# EAGLE library part ATSAM4LCX_100 (library imix)
100-pin TQFP Atmel SAM4LC microcontroller.
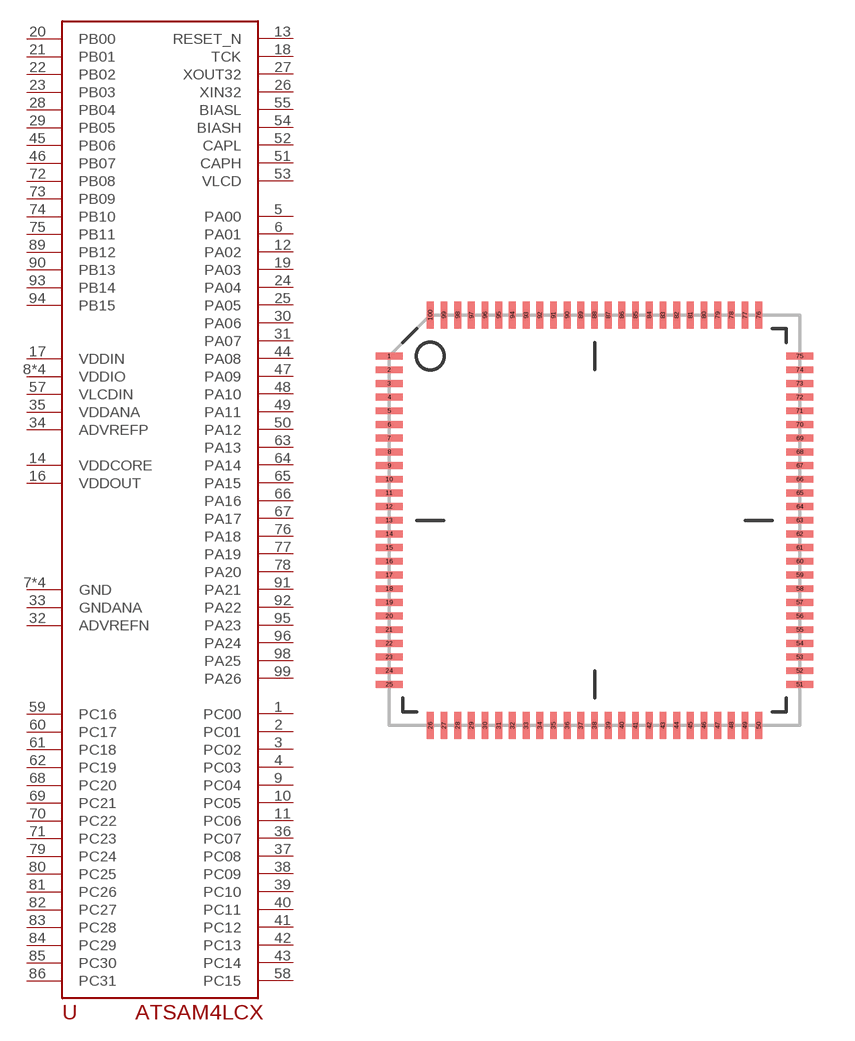
[diagram p9: symbol with the pads of TQFP100; footprint TQFP100]

Designator prefix -

## ATSAM4LCX_100  [TQFP100]
1  PC00
2  PC01
3  PC02
4  PC03
5  PA00
6  PA01
7  GND  pwr
8  VDDIO
9  PC04
10  PC05
11  PC06
12  PA02
13  RESET_N
14  VDDCORE
15  GND  pwr
16  VDDOUT
17  VDDIN
18  TCK
19  PA03
20  PB00
21  PB01
22  PB02
23  PB03
24  PA04
25  PA05
26  XIN32
27  XOUT32
28  PB04
29  PB05
30  PA06
31  PA07
32  ADVREFN
33  GNDANA
34  ADVREFP
35  VDDANA
36  PC07
37  PC08
38  PC09
39  PC10
40  PC11
41  PC12
42  PC13
43  PC14
44  PA08
45  PB06
46  PB07
47  PA09
48  PA10
49  PA11
50  PA12
51  CAPH
52  CAPL
53  VLCD
54  BIASH  pwr
55  BIASL  pwr
56  GND  pwr
57  VLCDIN
58  PC15
59  PC16
60  PC17
61  PC18
62  PC19
63  PA13
64  PA14
65  PA15
66  PA16
67  PA17
68  PC20
69  PC21
70  PC22
71  PC23
72  PB08
73  PB09
74  PB10
75  PB11
76  PA18
77  PA19
78  PA20
79  PC24
80  PC25
81  PC26
82  PC27
83  PC28
84  PC29
85  PC30
86  PC31
87  VDDIO
88  VDDIO
89  PB12
90  PB13
91  PA21
92  PA22
93  PB14
94  PB15
95  PA23
96  PA24
97  VDDIO
98  PA25
99  PA26
100  GND  pwr

## Footprint TQFP100 (pad centres in mm)
100-pin TQFP package for ATSAM4LXX
smd 1 x 0.25: 1 -7.5,6; 2 -7.5,5.5; 3 -7.5,5; 4 -7.5,4.5; 5 -7.5,4; 6 -7.5,3.5; 7 -7.5,3; 8 -7.5,2.5; 9 -7.5,2; 10 -7.5,1.5; 11 -7.5,1; 12 -7.5,0.5; 13 -7.5,0; 14 -7.5,-0.5; 15 -7.5,-1; 16 -7.5,-1.5; 17 -7.5,-2; 18 -7.5,-2.5; 19 -7.5,-3; 20 -7.5,-3.5; 21 -7.5,-4; 22 -7.5,-4.5; 23 -7.5,-5; 24 -7.5,-5.5; 25 -7.5,-6; 51 7.5,-6; 52 7.5,-5.5; 53 7.5,-5; 54 7.5,-4.5; 55 7.5,-4; 56 7.5,-3.5; 57 7.5,-3; 58 7.5,-2.5; 59 7.5,-2; 60 7.5,-1.5; 61 7.5,-1; 62 7.5,-0.5; 63 7.5,0; 64 7.5,0.5; 65 7.5,1; 66 7.5,1.5; 67 7.5,2; 68 7.5,2.5; 69 7.5,3; 70 7.5,3.5; 71 7.5,4; 72 7.5,4.5; 73 7.5,5; 74 7.5,5.5; 75 7.5,6
smd 0.25 x 1: 26 -6,-7.5; 27 -5.5,-7.5; 28 -5,-7.5; 29 -4.5,-7.5; 30 -4,-7.5; 31 -3.5,-7.5; 32 -3,-7.5; 33 -2.5,-7.5; 34 -2,-7.5; 35 -1.5,-7.5; 36 -1,-7.5; 37 -0.5,-7.5; 38 0,-7.5; 39 0.5,-7.5; 40 1,-7.5; 41 1.5,-7.5; 42 2,-7.5; 43 2.5,-7.5; 44 3,-7.5; 45 3.5,-7.5; 46 4,-7.5; 47 4.5,-7.5; 48 5,-7.5; 49 5.5,-7.5; 50 6,-7.5; 76 6,7.5; 77 5.5,7.5; 78 5,7.5; 79 4.5,7.5; 80 4,7.5; 81 3.5,7.5; 82 3,7.5; 83 2.5,7.5; 84 2,7.5; 85 1.5,7.5; 86 1,7.5; 87 0.5,7.5; 88 0,7.5; 89 -0.5,7.5; 90 -1,7.5; 91 -1.5,7.5; 92 -2,7.5; 93 -2.5,7.5; 94 -3,7.5; 95 -3.5,7.5; 96 -4,7.5; 97 -4.5,7.5; 98 -5,7.5; 99 -5.5,7.5; 100 -6,7.5